# Altium footprint library XT30PWF.PcbLib: 1 footprints
Each footprint in its own frame and in the unit in brackets; x right, y up, seen from the top. Pads: shape width x height; smd on the part's side, far side on the other; paste and mask are expansions set on the pad; w line width, h text height; cw(c..) or ccw(c..) is an arc to the next point about the centre after c.
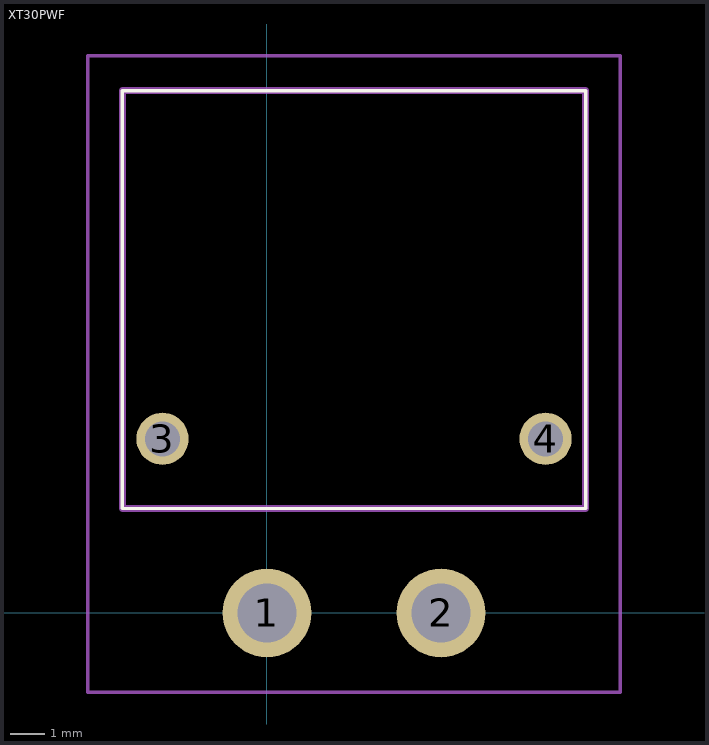
[diagram p0: the footprint, top view; thin cyan lines are the x and y axes]

## XT30PWF [mm]
pads (4):
  round 2.55 hole 1.7: 1(0,0) 2(5,0)
  round 1.5 hole 1: 3(-3,5) 4(8,5)
Top Overlay:
  lines w0.1: -4.15,3 9.15,3 9.15,15 -4.15,15 -4.15,3
Mechanical 15:
  lines w0.2: -4.15,3 9.15,3 9.15,15 -4.15,15 -4.15,3
Mechanical 20:
  lines w0.1: -5.15,-2.275 10.15,-2.275 10.15,16 -5.15,16 -5.15,-2.275